# Altium schematic symbol library Diodes.SchLib: 448 symbols (part 8 of 10)
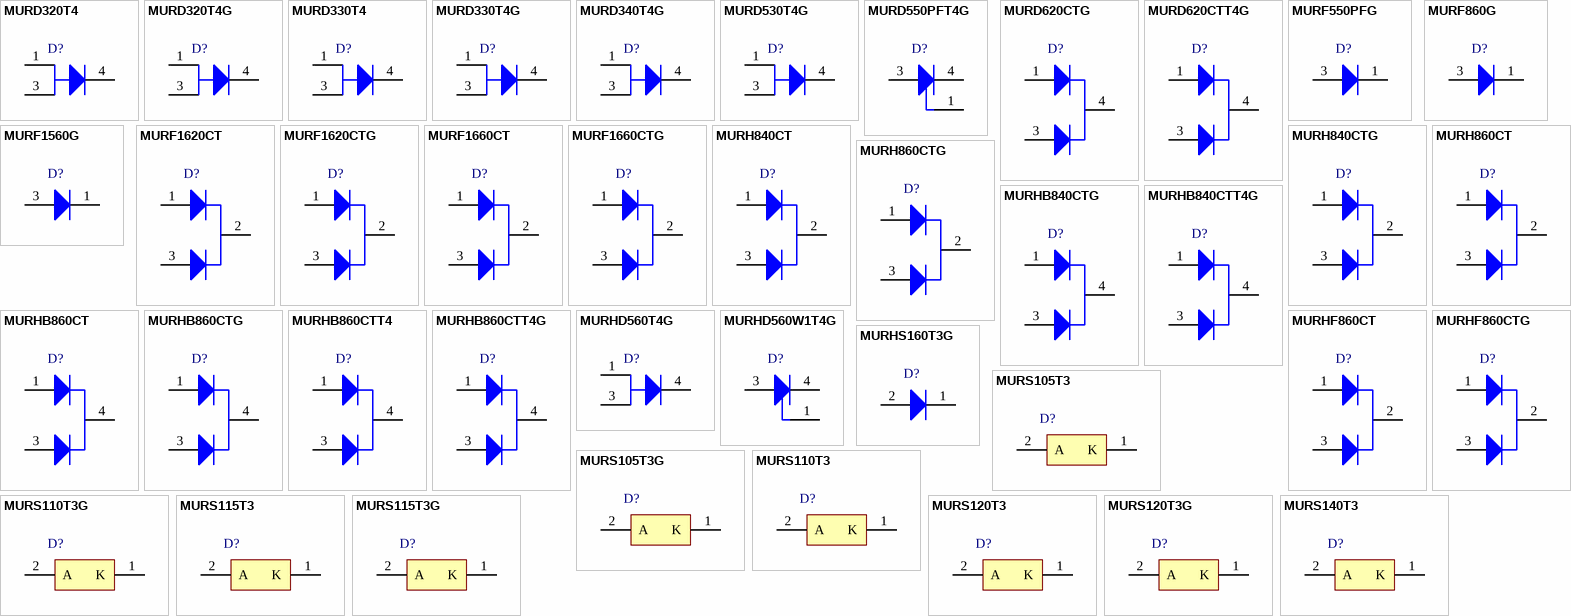
[diagram p18: symbols MURD320T4 to MURS140T3]

## MURH840CT
designator D?
Power Rectifier, 3-Pin TO-220, Tube; Manufacturer: On Semiconductor; PartNumber: MURH840CT; IFSM Max (A): 100; IO(rec) Max (A): 8; Type: Ultrafast; VRRM Max (V): 400; DatasheetVersion: Rev. 6; PackageVersion: Rev. AF; PackageReference: TO-220-3-221A-09_AF; PackageDescription: 3-Pin Flange Mount, Vertical Straight Lead, Body 9.97 x 4.445 mm, Pitch 2.54 mm; Supplier 1: Digi-Key; Supplier Part Number 1: MURH840CTOS-ND; Packing: Tube; RoHS: FALSE; Mounting Technology: Through Hole; ComponentLink1Description: Manufacturer URL; ComponentLink1URL: http://www.onsemi.com/; ComponentLink2Description: Datasheet; ComponentLink2URL: http://www.onsemi.cn/pub_link/Collateral/MURH840CT-D.PDF; ComponentLink3Description: Package Specification; ComponentLink3URL: http://www.onsemi.cn/pub_link/Collateral/MCR8S-D.PDF
footprint ONSC-TO-220-3-221A-09_AF (FM, 3-Leads, Body 10.3x4.85mm, Pitch 2.54mm)
pins: 1 A1, 2 K, 3 A2

## MURH840CTG
designator D?
Power Rectifier, 3-Pin TO-220, Pb-Free, Tube; Manufacturer: On Semiconductor; PartNumber: MURH840CTG; IFSM Max (A): 100; IO(rec) Max (A): 8; Type: Ultrafast; VRRM Max (V): 400; DatasheetVersion: Rev. 6; PackageVersion: Rev. AF; PackageReference: TO-220-3-221A-09_AF; PackageDescription: 3-Pin Flange Mount, Vertical Straight Lead, Body 9.97 x 4.445 mm, Pitch 2.54 mm; Supplier 1: Digi-Key; Supplier Part Number 1: MURH840CTGOS-ND; Supplier 2: Farnell; Supplier Part Number 2: 2317406; Supplier 3: Newark; Supplier Part Number 3: 71J6211; Supplier 4: Newark; Supplier Part Number 4: 90W4735; Supplier 5: Mouser; Supplier Part Number 5: 863-MURH840CTG; Packing: Tube; RoHS: TRUE; Mounting Technology: Through Hole; ComponentLink1Description: Manufacturer URL; ComponentLink1URL: http://www.onsemi.com/; ComponentLink2Description: Datasheet; ComponentLink2URL: http://www.onsemi.cn/pub_link/Collateral/MURH840CT-D.PDF; ComponentLink3Description: Package Specification; ComponentLink3URL: http://www.onsemi.cn/pub_link/Collateral/MCR8S-D.PDF
footprint ONSC-TO-220-3-221A-09_AF (FM, 3-Leads, Body 10.3x4.85mm, Pitch 2.54mm)
pins: 1 A1, 2 K, 3 A2

## MURH860CT
designator D?
Power Rectifier, 3-Pin TO-220, Tube; Manufacturer: On Semiconductor; PartNumber: MURH860CT; IFSM Max (A): 100; IO(rec) Max (A): 8; Type: Ultrafast; VRRM Max (V): 600; DatasheetVersion: Rev. 5; PackageVersion: Rev. AF; PackageReference: TO-220-3-221A-09_AF; PackageDescription: 3-Pin Flange Mount, Vertical Straight Lead, Body 9.97 x 4.445 mm, Pitch 2.54 mm; Supplier 1: Digi-Key; Supplier Part Number 1: MURH860CTOS-ND; Packing: Tube; RoHS: FALSE; Mounting Technology: Through Hole; ComponentLink1Description: Manufacturer URL; ComponentLink1URL: http://www.onsemi.com/; ComponentLink2Description: Datasheet; ComponentLink2URL: http://www.onsemi.cn/pub_link/Collateral/MURH860CT-D.PDF; ComponentLink3Description: Package Specification; ComponentLink3URL: http://www.onsemi.cn/pub_link/Collateral/MCR8S-D.PDF
footprint ONSC-TO-220-3-221A-09_AF (FM, 3-Leads, Body 10.3x4.85mm, Pitch 2.54mm)
pins: 1 A1, 2 K, 3 A2

## MURH860CTG
designator D?
Power Rectifier, 3-Pin TO-220, Pb-Free, Tube; Manufacturer: On Semiconductor; PartNumber: MURH860CTG; IFSM Max (A): 100; IO(rec) Max (A): 8; Type: Ultrafast; VRRM Max (V): 600; DatasheetVersion: Rev. 5; PackageVersion: Rev. AF; PackageReference: TO-220-3-221A-09_AF; PackageDescription: 3-Pin Flange Mount, Vertical Straight Lead, Body 9.97 x 4.445 mm, Pitch 2.54 mm; Supplier 1: Digi-Key; Supplier Part Number 1: MURH860CTGOS-ND; Supplier 2: Farnell; Supplier Part Number 2: 1651060; Supplier 3: Newark; Supplier Part Number 3: 45J1736; Supplier 4: Mouser; Supplier Part Number 4: 863-MURH860CTG; Packing: Tube; RoHS: TRUE; Mounting Technology: Through Hole; ComponentLink1Description: Manufacturer URL; ComponentLink1URL: http://www.onsemi.com/; ComponentLink2Description: Datasheet; ComponentLink2URL: http://www.onsemi.cn/pub_link/Collateral/MURH860CT-D.PDF; ComponentLink3Description: Package Specification; ComponentLink3URL: http://www.onsemi.cn/pub_link/Collateral/MCR8S-D.PDF
footprint ONSC-TO-220-3-221A-09_AF (FM, 3-Leads, Body 10.3x4.85mm, Pitch 2.54mm)
pins: 1 A1, 2 K, 3 A2

## MURHB840CTG
designator D?
Power Rectifier, 3-Pin D2PAK, Pb-Free, Tube; Manufacturer: On Semiconductor; PartNumber: MURHB840CTG; IFSM Max (A): 100; IO(rec) Max (A): 8; Type: Ultrafast; VRRM Max (V): 400; DatasheetVersion: Rev. 7; PackageVersion: Rev. K, 09/2008; PackageReference: D2PAK-3-418B-04; PackageDescription: 3-Pin Flange Mount, Body 9.145 x 9.97 mm, Pitch 2.54 mm; Supplier 1: Digi-Key; Supplier Part Number 1: MURHB840CTGOS-ND; Supplier 2: Newark; Supplier Part Number 2: 71J6210; Supplier 3: Mouser; Supplier Part Number 3: 863-MURHB840CTG; Packing: Tube; RoHS: TRUE; Mounting Technology: Surface Mount; ComponentLink1Description: Manufacturer URL; ComponentLink1URL: http://www.onsemi.com/; ComponentLink2Description: Datasheet; ComponentLink2URL: http://www.onsemi.cn/pub_link/Collateral/MURHB840CT-D.PDF; ComponentLink3Description: Package Specification; ComponentLink3URL: http://www.onsemi.com/pub_link/Collateral/418B-04.PDF
footprint ONSC-D2PAK-3-418B-04_V (DPAK, 3-Leads, Body 9.97x9.145mm, Pitch 2.54mm)
pins: 1 A1, 3 A2, 4 K

## MURHB840CTT4G
designator D?
Power Rectifier, 3-Pin D2PAK, Pb-Free, Tape and Reel; Manufacturer: On Semiconductor; PartNumber: MURHB840CTT4G; IFSM Max (A): 100; IO(rec) Max (A): 8; Type: Ultrafast; VRRM Max (V): 400; DatasheetVersion: Rev. 7; PackageVersion: Rev. K, 09/2008; PackageReference: D2PAK-3-418B-04; PackageDescription: 3-Pin Flange Mount, Body 9.145 x 9.97 mm, Pitch 2.54 mm; Supplier 1: Digi-Key; Supplier Part Number 1: MURHB840CTT4GOSTR-ND; Supplier 2: Digi-Key; Supplier Part Number 2: MURHB840CTT4GOSCT-ND; Supplier 3: Digi-Key; Supplier Part Number 3: MURHB840CTT4GOSDKR-ND; Supplier 4: Farnell; Supplier Part Number 4: 1887102; Supplier 5: Newark; Supplier Part Number 5: 09R9584; Supplier 6: Mouser; Supplier Part Number 6: 863-MURHB840CTT4G; Packing: Tape and Reel; RoHS: TRUE; Mounting Technology: Surface Mount; ComponentLink1Description: Manufacturer URL; ComponentLink1URL: http://www.onsemi.com/; ComponentLink2Description: Datasheet; ComponentLink2URL: http://www.onsemi.cn/pub_link/Collateral/MURHB840CT-D.PDF; ComponentLink3Description: Package Specification; ComponentLink3URL: http://www.onsemi.com/pub_link/Collateral/418B-04.PDF
footprint ONSC-D2PAK-3-418B-04_V (DPAK, 3-Leads, Body 9.97x9.145mm, Pitch 2.54mm)
pins: 1 A1, 3 A2, 4 K

## MURHB860CT
designator D?
Power Rectifier, 3-Pin D2PAK, Tube; Manufacturer: On Semiconductor; PartNumber: MURHB860CT; IFSM Max (A): 100; Type: Ultrafast; VRRM Max (V): 600; DatasheetVersion: Rev. 3; PackageVersion: Rev. K, 09/2008; PackageReference: D2PAK-3-418B-04; PackageDescription: 3-Pin Flange Mount, Body 9.145 x 9.97 mm, Pitch 2.54 mm; Supplier 1: Digi-Key; Supplier Part Number 1: MURHB860CT-ND; Supplier 2: Mouser; Supplier Part Number 2: 863-MURHB860CT; Packing: Tube; RoHS: FALSE; Mounting Technology: Surface Mount; ComponentLink1Description: Manufacturer URL; ComponentLink1URL: http://www.onsemi.com/; ComponentLink2Description: Datasheet; ComponentLink2URL: http://www.onsemi.cn/pub_link/Collateral/MURHB860CT-D.PDF; ComponentLink3Description: Package Specification; ComponentLink3URL: http://www.onsemi.com/pub_link/Collateral/418B-04.PDF
footprint ONSC-D2PAK-3-418B-04_V (DPAK, 3-Leads, Body 9.97x9.145mm, Pitch 2.54mm)
pins: 1 A1, 3 A2, 4 K

## MURHB860CTG
designator D?
Power Rectifier, 3-Pin D2PAK, Pb-Free, Tube; Manufacturer: On Semiconductor; PartNumber: MURHB860CTG; IFSM Max (A): 100; Type: Ultrafast; VRRM Max (V): 600; DatasheetVersion: Rev. 3; PackageVersion: Rev. K, 09/2008; PackageReference: D2PAK-3-418B-04; PackageDescription: 3-Pin Flange Mount, Body 9.145 x 9.97 mm, Pitch 2.54 mm; Supplier 1: Digi-Key; Supplier Part Number 1: MURHB860CTG-ND; Supplier 2: Mouser; Supplier Part Number 2: 863-MURHB860CTG; Packing: Tube; RoHS: TRUE; Mounting Technology: Surface Mount; ComponentLink1Description: Manufacturer URL; ComponentLink1URL: http://www.onsemi.com/; ComponentLink2Description: Datasheet; ComponentLink2URL: http://www.onsemi.cn/pub_link/Collateral/MURHB860CT-D.PDF; ComponentLink3Description: Package Specification; ComponentLink3URL: http://www.onsemi.com/pub_link/Collateral/418B-04.PDF
footprint ONSC-D2PAK-3-418B-04_V (DPAK, 3-Leads, Body 9.97x9.145mm, Pitch 2.54mm)
pins: 1 A1, 3 A2, 4 K

## MURHB860CTT4
designator D?
Power Rectifier, 3-Pin D2PAK, Tape and Reel; Manufacturer: On Semiconductor; PartNumber: MURHB860CTT4; IFSM Max (A): 100; Type: Ultrafast; VRRM Max (V): 600; DatasheetVersion: Rev. 3; PackageVersion: Rev. K, 09/2008; PackageReference: D2PAK-3-418B-04; PackageDescription: 3-Pin Flange Mount, Body 9.145 x 9.97 mm, Pitch 2.54 mm; Supplier 1: Digi-Key; Supplier Part Number 1: MURHB860CTT4OSTR-ND; Supplier 2: Digi-Key; Supplier Part Number 2: MURHB860CTT4OSCT-ND; Packing: Tape and Reel; RoHS: FALSE; Mounting Technology: Surface Mount; ComponentLink1Description: Manufacturer URL; ComponentLink1URL: http://www.onsemi.com/; ComponentLink2Description: Datasheet; ComponentLink2URL: http://www.onsemi.cn/pub_link/Collateral/MURHB860CT-D.PDF; ComponentLink3Description: Package Specification; ComponentLink3URL: http://www.onsemi.com/pub_link/Collateral/418B-04.PDF
footprint ONSC-D2PAK-3-418B-04_V (DPAK, 3-Leads, Body 9.97x9.145mm, Pitch 2.54mm)
pins: 1 A1, 3 A2, 4 K

## MURHB860CTT4G
designator D?
Power Rectifier, 3-Pin D2PAK, Pb-Free, Tape and Reel; Manufacturer: On Semiconductor; PartNumber: MURHB860CTT4G; IFSM Max (A): 100; Type: Ultrafast; VRRM Max (V): 600; DatasheetVersion: Rev. 3; PackageVersion: Rev. K, 09/2008; PackageReference: D2PAK-3-418B-04; PackageDescription: 3-Pin Flange Mount, Body 9.145 x 9.97 mm, Pitch 2.54 mm; Supplier 1: Digi-Key; Supplier Part Number 1: MURHB860CTT4GOSTR-ND; Supplier 2: Digi-Key; Supplier Part Number 2: MURHB860CTT4GOSCT-ND; Supplier 3: Digi-Key; Supplier Part Number 3: MURHB860CTT4GOSDKR-ND; Supplier 4: Newark; Supplier Part Number 4: 42K1587; Supplier 5: Mouser; Supplier Part Number 5: 863-MURHB860CTT4G; Packing: Tape and Reel; RoHS: TRUE; Mounting Technology: Surface Mount; ComponentLink1Description: Manufacturer URL; ComponentLink1URL: http://www.onsemi.com/; ComponentLink2Description: Datasheet; ComponentLink2URL: http://www.onsemi.cn/pub_link/Collateral/MURHB860CT-D.PDF; ComponentLink3Description: Package Specification; ComponentLink3URL: http://www.onsemi.com/pub_link/Collateral/418B-04.PDF
footprint ONSC-D2PAK-3-418B-04_V (DPAK, 3-Leads, Body 9.97x9.145mm, Pitch 2.54mm)
pins: 1 A1, 3 A2, 4 K

## MURHD560T4G
designator D?
Power Rectifier, 3-Pin DPAK, Pb-Free, Tape and Reel; Manufacturer: On Semiconductor; PartNumber: MURHD560T4G; IFSM Max (A): 50; Type: Ultrafast; VRRM Max (V): 600; DatasheetVersion: Rev. 8; PackageVersion: Rev. E, 02/2014; PackageReference: DPAK-3-369C-01; PackageDescription: 3-Pin Flange Mount, Body 6.54 x 6.095 mm, Pitch 2.29 mm; Supplier 1: Digi-Key; Supplier Part Number 1: MURHD560T4G-ND; Supplier 2: Newark; Supplier Part Number 2: 50M2102; Supplier 3: Mouser; Supplier Part Number 3: 863-MURHD560T4G; Packing: Tape and Reel; RoHS: TRUE; Mounting Technology: Surface Mount; ComponentLink1Description: Manufacturer URL; ComponentLink1URL: http://www.onsemi.com/; ComponentLink2Description: Datasheet; ComponentLink2URL: http://www.onsemi.cn/pub_link/Collateral/MURHD560-D.PDF; ComponentLink3Description: Package Specification; ComponentLink3URL: http://www.onsemi.cn/pub_link/Collateral/369C.PDF
footprint ONSC-DPAK-3-369C-01_V (DPAK, 3-Leads, Body 6.54x6.095mm, Pitch 2.29mm)
pins: 1 A, 3 A, 4 K

## MURHD560W1T4G
designator D?
Power Rectifier, 3-Pin DPAK, Pb-Free, Tape and Reel; Manufacturer: On Semiconductor; PartNumber: MURHD560W1T4G; IFSM Max (A): 50; Type: Ultrafast; VRRM Max (V): 600; DatasheetVersion: Rev. 8; PackageVersion: Rev. E, 02/2014; PackageReference: DPAK-3-369C-01; PackageDescription: 3-Pin Flange Mount, Body 6.54 x 6.095 mm, Pitch 2.29 mm; Supplier 1: Digi-Key; Supplier Part Number 1: MURHD560W1T4G-ND; Supplier 2: Newark; Supplier Part Number 2: 13P5442; Supplier 3: Mouser; Supplier Part Number 3: 863-MURHD560W1T4G; Packing: Tape and Reel; RoHS: TRUE; Mounting Technology: Surface Mount; ComponentLink1Description: Manufacturer URL; ComponentLink1URL: http://www.onsemi.com/; ComponentLink2Description: Datasheet; ComponentLink2URL: http://www.onsemi.cn/pub_link/Collateral/MURHD560-D.PDF; ComponentLink3Description: Package Specification; ComponentLink3URL: http://www.onsemi.cn/pub_link/Collateral/369C.PDF
footprint ONSC-DPAK-3-369C-01_V (DPAK, 3-Leads, Body 6.54x6.095mm, Pitch 2.29mm)
pins: 1 NC, 3 A, 4 K

## MURHF860CT
designator D?
SWITCHMODE(TM) Power Rectifier, 3-Pin TO-220, Tube; Manufacturer: On Semiconductor; PartNumber: MURHF860CT; IFSM Max (A): 100; Type: Ultrafast; VRRM Max (V): 600; DatasheetVersion: Rev. 5; PackageVersion: Rev. K, 02/2009; PackageReference: TO-220FP-3-221D-03; PackageDescription: 3-Pin Flange Mount, Vertical Straight Lead, Body 10.295 x 4.7 mm, Pitch 2.54 mm; Supplier 1: Digi-Key; Supplier Part Number 1: MURHF860CT-ND; Packing: Tube; RoHS: FALSE; Mounting Technology: Through Hole; ComponentLink1Description: Manufacturer URL; ComponentLink1URL: http://www.onsemi.com/; ComponentLink2Description: Datasheet; ComponentLink2URL: http://www.onsemi.cn/pub_link/Collateral/MURHF860CT-D.PDF; ComponentLink3Description: Package Specification; ComponentLink3URL: http://www.onsemi.cn/pub_link/Collateral/221D-03.PDF
footprint ONSC-TO-220FP-3-221D-03 (FM, 3-Leads, Body 10.63x4.9mm, Pitch 2.54mm)
pins: 1 A1, 2 K, 3 A2

## MURHF860CTG
designator D?
SWITCHMODE(TM) Power Rectifier, 3-Pin TO-220FP, Pb-Free, Tube; Manufacturer: On Semiconductor; PartNumber: MURHF860CTG; IFSM Max (A): 100; Type: Ultrafast; VRRM Max (V): 600; DatasheetVersion: Rev. 5; PackageVersion: Rev. K, 02/2009; PackageReference: TO-220FP-3-221D-03; PackageDescription: 3-Pin Flange Mount, Vertical Straight Lead, Body 10.295 x 4.7 mm, Pitch 2.54 mm; Supplier 1: Digi-Key; Supplier Part Number 1: MURHF860CTGOS-ND; Supplier 2: Newark; Supplier Part Number 2: 42K1588; Supplier 3: Mouser; Supplier Part Number 3: 863-MURHF860CTG; Packing: Tube; RoHS: TRUE; Mounting Technology: Through Hole; ComponentLink1Description: Manufacturer URL; ComponentLink1URL: http://www.onsemi.com/; ComponentLink2Description: Datasheet; ComponentLink2URL: http://www.onsemi.cn/pub_link/Collateral/MURHF860CT-D.PDF; ComponentLink3Description: Package Specification; ComponentLink3URL: http://www.onsemi.cn/pub_link/Collateral/221D-03.PDF
footprint ONSC-TO-220FP-3-221D-03 (FM, 3-Leads, Body 10.63x4.9mm, Pitch 2.54mm)
pins: 1 A1, 2 K, 3 A2

## MURHS160T3G
designator D?
Power Rectifier, 2-Pin SMB, Pb-Free, Tape and Reel; Manufacturer: On Semiconductor; PartNumber: MURHS160T3G; IFSM Max (A): 15; Type: Ultrafast; VRRM Max (V): 600; DatasheetVersion: Rev. 3; PackageVersion: Rev. H, 05/2011; PackageReference: SMB-2-403A-03_H; PackageDescription: 2-Pin Small Molded Package, J-Bend Lead, Body 4.33 x 3.625 mm; Supplier 1: Digi-Key; Supplier Part Number 1: MURHS160T3G-ND; Supplier 2: Newark; Supplier Part Number 2: 34M7667; Supplier 3: Mouser; Supplier Part Number 3: 863-MURHS160T3G; Packing: Tape and Reel; RoHS: TRUE; Mounting Technology: Surface Mount; ComponentLink1Description: Manufacturer URL; ComponentLink1URL: http://www.onsemi.com/; ComponentLink2Description: Datasheet; ComponentLink2URL: http://www.onsemi.cn/pub_link/Collateral/MURHS160-D.PDF; ComponentLink3Description: Package Specification; ComponentLink3URL: http://www.onsemi.com/pub_link/Collateral/1SMB5913BT3-D.PDF
footprint ONSC-SMB-2-403A-03_H_V (Molded, 2-Leads, Body 4.6x3.95mm)
pins: 1 K, 2 A

## MURS105T3
designator D?
Surface Mount Ultrafast Power Rectifier, 2-Pin SMB, Tape and Reel; Manufacturer: On Semiconductor; PartNumber: MURS105T3; IFSM Max (A): 40; VRRM Max (V): 50; DatasheetVersion: Rev. 12; PackageVersion: Rev. J, 07/2012; PackageReference: SMB-2-403A-03; PackageDescription: 2-Pin Small Molded Package, J-Bend Lead, Body 4.33 x 3.625 mm; Supplier 1: Digi-Key; Supplier Part Number 1: MURS105T3OSTR-ND; Supplier 2: Digi-Key; Supplier Part Number 2: MURS105T3OSCT-ND; Supplier 3: Digi-Key; Supplier Part Number 3: MURS105T3OSDKR-ND; Packing: Tape and Reel; RoHS: FALSE; Type: Ultrafast; Mounting Technology: Surface Mount; ComponentLink1Description: Manufacturer URL; ComponentLink1URL: http://www.onsemi.com/; ComponentLink2Description: Datasheet; ComponentLink2URL: http://www.onsemi.cn/pub_link/Collateral/MURS120T3-D.PDF; ComponentLink3Description: Package Specification; ComponentLink3URL: http://www.onsemi.com/pub_link/Collateral/403A-03.PDF
footprint ONSC-SMB-2-403A-03_V (Molded, 2-Leads, Body 4.6x3.95mm)
pins: 1 K, 2 A

## MURS105T3G
designator D?
Surface Mount Ultrafast Power Rectifier, 2-Pin SMB, Pb-Free, Tape and Reel; Manufacturer: On Semiconductor; PartNumber: MURS105T3G; IFSM Max (A): 40; VRRM Max (V): 50; DatasheetVersion: Rev. 12; PackageVersion: Rev. J, 07/2012; PackageReference: SMB-2-403A-03; PackageDescription: 2-Pin Small Molded Package, J-Bend Lead, Body 4.33 x 3.625 mm; Supplier 1: Digi-Key; Supplier Part Number 1: MURS105T3GOSTR-ND; Supplier 2: Digi-Key; Supplier Part Number 2: MURS105T3GOSCT-ND; Supplier 3: Digi-Key; Supplier Part Number 3: MURS105T3GOSDKR-ND; Supplier 4: Farnell; Supplier Part Number 4: 1231726; Supplier 5: Newark; Supplier Part Number 5: 42K1591; Supplier 6: Mouser; Supplier Part Number 6: 863-MURS105T3G; Packing: Tape and Reel; RoHS: TRUE; Type: Ultrafast; Mounting Technology: Surface Mount; ComponentLink1Description: Manufacturer URL; ComponentLink1URL: http://www.onsemi.com/; ComponentLink2Description: Datasheet; ComponentLink2URL: http://www.onsemi.cn/pub_link/Collateral/MURS120T3-D.PDF; ComponentLink3Description: Package Specification; ComponentLink3URL: http://www.onsemi.com/pub_link/Collateral/403A-03.PDF
footprint ONSC-SMB-2-403A-03_V (Molded, 2-Leads, Body 4.6x3.95mm)
pins: 1 K, 2 A

## MURS110T3
designator D?
Surface Mount Ultrafast Power Rectifier, 2-Pin SMB, Tape and Reel; Manufacturer: On Semiconductor; PartNumber: MURS110T3; IFSM Max (A): 40; VRRM Max (V): 100; DatasheetVersion: Rev. 12; PackageVersion: Rev. J, 07/2012; PackageReference: SMB-2-403A-03; PackageDescription: 2-Pin Small Molded Package, J-Bend Lead, Body 4.33 x 3.625 mm; Supplier 1: Digi-Key; Supplier Part Number 1: MURS110T3OSCT-ND; Supplier 2: Digi-Key; Supplier Part Number 2: MURS110T3OSDKR-ND; Packing: Tape and Reel; RoHS: FALSE; Type: Ultrafast; Mounting Technology: Surface Mount; ComponentLink1Description: Manufacturer URL; ComponentLink1URL: http://www.onsemi.com/; ComponentLink2Description: Datasheet; ComponentLink2URL: http://www.onsemi.cn/pub_link/Collateral/MURS120T3-D.PDF; ComponentLink3Description: Package Specification; ComponentLink3URL: http://www.onsemi.com/pub_link/Collateral/403A-03.PDF
footprint ONSC-SMB-2-403A-03_V (Molded, 2-Leads, Body 4.6x3.95mm)
pins: 1 K, 2 A

## MURS110T3G
designator D?
Surface Mount Ultrafast Power Rectifier, 2-Pin SMB, Pb-Free, Tape and Reel; Manufacturer: On Semiconductor; PartNumber: MURS110T3G; IFSM Max (A): 40; VRRM Max (V): 100; DatasheetVersion: Rev. 12; PackageVersion: Rev. J, 07/2012; PackageReference: SMB-2-403A-03; PackageDescription: 2-Pin Small Molded Package, J-Bend Lead, Body 4.33 x 3.625 mm; Supplier 1: Digi-Key; Supplier Part Number 1: MURS110T3GOSTR-ND; Supplier 2: Digi-Key; Supplier Part Number 2: MURS110T3GOSCT-ND; Supplier 3: Digi-Key; Supplier Part Number 3: MURS110T3GOSDKR-ND; Supplier 4: Farnell; Supplier Part Number 4: 1872949; Supplier 5: Newark; Supplier Part Number 5: 26K4701; Supplier 6: Newark; Supplier Part Number 6: 03P0566; Supplier 7: Mouser; Supplier Part Number 7: 863-MURS110T3G; Packing: Tape and Reel; RoHS: TRUE; Type: Ultrafast; Mounting Technology: Surface Mount; ComponentLink1Description: Manufacturer URL; ComponentLink1URL: http://www.onsemi.com/; ComponentLink2Description: Datasheet; ComponentLink2URL: http://www.onsemi.cn/pub_link/Collateral/MURS120T3-D.PDF; ComponentLink3Description: Package Specification; ComponentLink3URL: http://www.onsemi.com/pub_link/Collateral/403A-03.PDF
footprint ONSC-SMB-2-403A-03_V (Molded, 2-Leads, Body 4.6x3.95mm)
pins: 1 K, 2 A

## MURS115T3
designator D?
Surface Mount Ultrafast Power Rectifier, 2-Pin SMB, Tape and Reel; Manufacturer: On Semiconductor; PartNumber: MURS115T3; IFSM Max (A): 40; VRRM Max (V): 150; DatasheetVersion: Rev. 12; PackageVersion: Rev. J, 07/2012; PackageReference: SMB-2-403A-03; PackageDescription: 2-Pin Small Molded Package, J-Bend Lead, Body 4.33 x 3.625 mm; Supplier 1: Digi-Key; Supplier Part Number 1: MURS115T3OSCT-ND; Supplier 2: Digi-Key; Supplier Part Number 2: MURS115T3OSDKR-ND; Packing: Tape and Reel; RoHS: FALSE; Type: Ultrafast; Mounting Technology: Surface Mount; ComponentLink1Description: Manufacturer URL; ComponentLink1URL: http://www.onsemi.com/; ComponentLink2Description: Datasheet; ComponentLink2URL: http://www.onsemi.cn/pub_link/Collateral/MURS120T3-D.PDF; ComponentLink3Description: Package Specification; ComponentLink3URL: http://www.onsemi.com/pub_link/Collateral/403A-03.PDF
footprint ONSC-SMB-2-403A-03_V (Molded, 2-Leads, Body 4.6x3.95mm)
pins: 1 K, 2 A

## MURS115T3G
designator D?
Surface Mount Ultrafast Power Rectifier, 2-Pin SMB, Pb-Free, Tape and Reel; Manufacturer: On Semiconductor; PartNumber: MURS115T3G; IFSM Max (A): 40; VRRM Max (V): 150; DatasheetVersion: Rev. 12; PackageVersion: Rev. J, 07/2012; PackageReference: SMB-2-403A-03; PackageDescription: 2-Pin Small Molded Package, J-Bend Lead, Body 4.33 x 3.625 mm; Supplier 1: Digi-Key; Supplier Part Number 1: MURS115T3GOSTR-ND; Supplier 2: Digi-Key; Supplier Part Number 2: MURS115T3GOSCT-ND; Supplier 3: Digi-Key; Supplier Part Number 3: MURS115T3GOSDKR-ND; Supplier 4: Farnell; Supplier Part Number 4: 1220689; Supplier 5: Newark; Supplier Part Number 5: 26K4702; Supplier 6: Newark; Supplier Part Number 6: 05R8891; Supplier 7: Mouser; Supplier Part Number 7: 863-MURS115T3G; Packing: Tape and Reel; RoHS: TRUE; Type: Ultrafast; Mounting Technology: Surface Mount; ComponentLink1Description: Manufacturer URL; ComponentLink1URL: http://www.onsemi.com/; ComponentLink2Description: Datasheet; ComponentLink2URL: http://www.onsemi.cn/pub_link/Collateral/MURS120T3-D.PDF; ComponentLink3Description: Package Specification; ComponentLink3URL: http://www.onsemi.com/pub_link/Collateral/403A-03.PDF
footprint ONSC-SMB-2-403A-03_V (Molded, 2-Leads, Body 4.6x3.95mm)
pins: 1 K, 2 A

## MURS120T3
designator D?
Surface Mount Ultrafast Power Rectifier, 2-Pin SMB, Tape and Reel; Manufacturer: On Semiconductor; PartNumber: MURS120T3; IFSM Max (A): 40; VRRM Max (V): 200; DatasheetVersion: Rev. 12; PackageVersion: Rev. J, 07/2012; PackageReference: SMB-2-403A-03; PackageDescription: 2-Pin Small Molded Package, J-Bend Lead, Body 4.33 x 3.625 mm; Supplier 1: Digi-Key; Supplier Part Number 1: MURS120T3OSCT-ND; Supplier 2: Digi-Key; Supplier Part Number 2: MURS120T3OSDKR-ND; Packing: Tape and Reel; RoHS: FALSE; Type: Ultrafast; Mounting Technology: Surface Mount; ComponentLink1Description: Manufacturer URL; ComponentLink1URL: http://www.onsemi.com/; ComponentLink2Description: Datasheet; ComponentLink2URL: http://www.onsemi.cn/pub_link/Collateral/MURS120T3-D.PDF; ComponentLink3Description: Package Specification; ComponentLink3URL: http://www.onsemi.com/pub_link/Collateral/403A-03.PDF
footprint ONSC-SMB-2-403A-03_V (Molded, 2-Leads, Body 4.6x3.95mm)
pins: 1 K, 2 A

## MURS120T3G
designator D?
Surface Mount Ultrafast Power Rectifier, 2-Pin SMB, Pb-Free, Tape and Reel; Manufacturer: On Semiconductor; PartNumber: MURS120T3G; IFSM Max (A): 40; VRRM Max (V): 200; DatasheetVersion: Rev. 12; PackageVersion: Rev. J, 07/2012; PackageReference: SMB-2-403A-03; PackageDescription: 2-Pin Small Molded Package, J-Bend Lead, Body 4.33 x 3.625 mm; Supplier 1: Digi-Key; Supplier Part Number 1: MURS120T3GOSTR-ND; Supplier 2: Digi-Key; Supplier Part Number 2: MURS120T3GOSCT-ND; Supplier 3: Digi-Key; Supplier Part Number 3: MURS120T3GOSDKR-ND; Supplier 4: Farnell; Supplier Part Number 4: 2317657; Supplier 5: Farnell; Supplier Part Number 5: 9557458RL; Supplier 6: Farnell; Supplier Part Number 6: 9557458; Supplier 7: Newark; Supplier Part Number 7: 03P0555; Supplier 8: Newark; Supplier Part Number 8: 83H7546; Supplier 9: Newark; Supplier Part Number 9: 18X9836; Supplier 10: Mouser; Supplier Part Number 10: 863-MURS120T3G; Packing: Tape and Reel; RoHS: TRUE; Type: Ultrafast; Mounting Technology: Surface Mount; ComponentLink1Description: Manufacturer URL; ComponentLink1URL: http://www.onsemi.com/; ComponentLink2Description: Datasheet; ComponentLink2URL: http://www.onsemi.cn/pub_link/Collateral/MURS120T3-D.PDF; ComponentLink3Description: Package Specification; ComponentLink3URL: http://www.onsemi.com/pub_link/Collateral/403A-03.PDF
footprint ONSC-SMB-2-403A-03_V (Molded, 2-Leads, Body 4.6x3.95mm)
pins: 1 K, 2 A

## MURS140T3
designator D?
Surface Mount Ultrafast Power Rectifier, 2-Pin SMB, Tape and Reel; Manufacturer: On Semiconductor; PartNumber: MURS140T3; IFSM Max (A): 35; VRRM Max (V): 400; DatasheetVersion: Rev. 12; PackageVersion: Rev. J, 07/2012; PackageReference: SMB-2-403A-03; PackageDescription: 2-Pin Small Molded Package, J-Bend Lead, Body 4.33 x 3.625 mm; Supplier 1: Digi-Key; Supplier Part Number 1: MURS140T3OSCT-ND; Supplier 2: Digi-Key; Supplier Part Number 2: MURS140T3OSDKR-ND; Packing: Tape and Reel; RoHS: FALSE; Type: Ultrafast; Mounting Technology: Surface Mount; ComponentLink1Description: Manufacturer URL; ComponentLink1URL: http://www.onsemi.com/; ComponentLink2Description: Datasheet; ComponentLink2URL: http://www.onsemi.cn/pub_link/Collateral/MURS120T3-D.PDF; ComponentLink3Description: Package Specification; ComponentLink3URL: http://www.onsemi.com/pub_link/Collateral/403A-03.PDF
footprint ONSC-SMB-2-403A-03_V (Molded, 2-Leads, Body 4.6x3.95mm)
pins: 1 K, 2 A

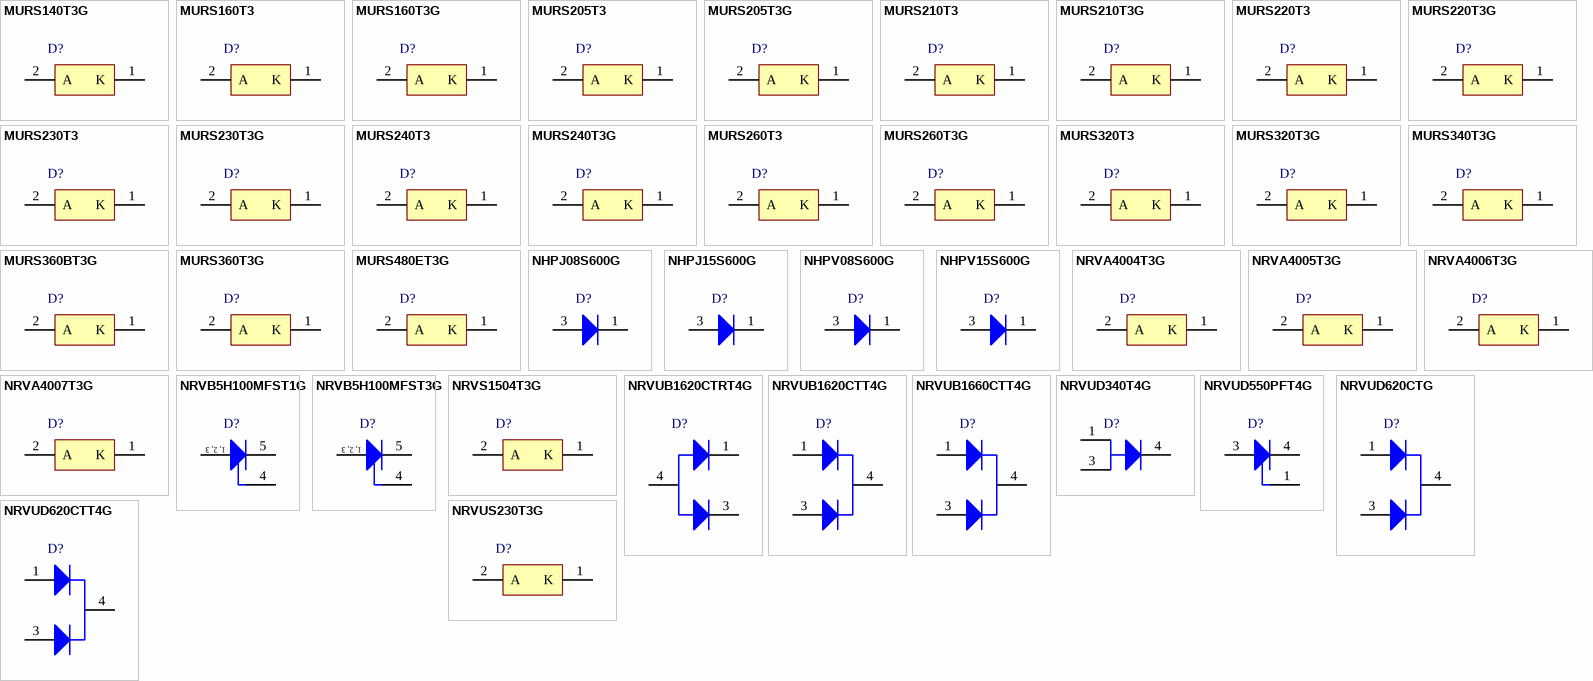
[diagram p9: symbols MURS140T3G to NRVUS230T3G]

## MURS140T3G
designator D?
Surface Mount Ultrafast Power Rectifier, 2-Pin SMB, Pb-Free, Tape and Reel; Manufacturer: On Semiconductor; PartNumber: MURS140T3G; IFSM Max (A): 35; VRRM Max (V): 400; DatasheetVersion: Rev. 12; PackageVersion: Rev. J, 07/2012; PackageReference: SMB-2-403A-03; PackageDescription: 2-Pin Small Molded Package, J-Bend Lead, Body 4.33 x 3.625 mm; Supplier 1: Digi-Key; Supplier Part Number 1: MURS140T3GOSTR-ND; Supplier 2: Digi-Key; Supplier Part Number 2: MURS140T3GOSCT-ND; Supplier 3: Digi-Key; Supplier Part Number 3: MURS140T3GOSDKR-ND; Supplier 4: Farnell; Supplier Part Number 4: 1459150RL; Supplier 5: Farnell; Supplier Part Number 5: 1459150; Supplier 6: Farnell; Supplier Part Number 6: 2370842; Supplier 7: Newark; Supplier Part Number 7: 45J1737; Supplier 8: Newark; Supplier Part Number 8: 67R1388; Supplier 9: Mouser; Supplier Part Number 9: 863-MURS140T3G; Packing: Tape and Reel; RoHS: TRUE; Type: Ultrafast; Mounting Technology: Surface Mount; ComponentLink1Description: Manufacturer URL; ComponentLink1URL: http://www.onsemi.com/; ComponentLink2Description: Datasheet; ComponentLink2URL: http://www.onsemi.cn/pub_link/Collateral/MURS120T3-D.PDF; ComponentLink3Description: Package Specification; ComponentLink3URL: http://www.onsemi.com/pub_link/Collateral/403A-03.PDF
footprint ONSC-SMB-2-403A-03_V (Molded, 2-Leads, Body 4.6x3.95mm)
pins: 1 K, 2 A

## MURS160T3
designator D?
Surface Mount Ultrafast Power Rectifier, 2-Pin SMB, Tape and Reel; Manufacturer: On Semiconductor; PartNumber: MURS160T3; IFSM Max (A): 35; VRRM Max (V): 600; DatasheetVersion: Rev. 12; PackageVersion: Rev. J, 07/2012; PackageReference: SMB-2-403A-03; PackageDescription: 2-Pin Small Molded Package, J-Bend Lead, Body 4.33 x 3.625 mm; Supplier 1: Digi-Key; Supplier Part Number 1: MURS160T3OSCT-ND; Supplier 2: Digi-Key; Supplier Part Number 2: MURS160T3OSDKR-ND; Packing: Tape and Reel; RoHS: FALSE; Type: Ultrafast; Mounting Technology: Surface Mount; ComponentLink1Description: Manufacturer URL; ComponentLink1URL: http://www.onsemi.com/; ComponentLink2Description: Datasheet; ComponentLink2URL: http://www.onsemi.cn/pub_link/Collateral/MURS120T3-D.PDF; ComponentLink3Description: Package Specification; ComponentLink3URL: http://www.onsemi.com/pub_link/Collateral/403A-03.PDF
footprint ONSC-SMB-2-403A-03_V (Molded, 2-Leads, Body 4.6x3.95mm)
pins: 1 K, 2 A

## MURS160T3G
designator D?
Surface Mount Ultrafast Power Rectifier, 2-Pin SMB, Pb-Free, Tape and Reel; Manufacturer: On Semiconductor; PartNumber: MURS160T3G; IFSM Max (A): 35; VRRM Max (V): 600; DatasheetVersion: Rev. 12; PackageVersion: Rev. J, 07/2012; PackageReference: SMB-2-403A-03; PackageDescription: 2-Pin Small Molded Package, J-Bend Lead, Body 4.33 x 3.625 mm; Supplier 1: Digi-Key; Supplier Part Number 1: MURS160T3GOSTR-ND; Supplier 2: Digi-Key; Supplier Part Number 2: MURS160T3GOSCT-ND; Supplier 3: Digi-Key; Supplier Part Number 3: MURS160T3GOSDKR-ND; Supplier 4: Farnell; Supplier Part Number 4: 9557520RL; Supplier 5: Farnell; Supplier Part Number 5: 9557520; Supplier 6: Newark; Supplier Part Number 6: 03P0691; Supplier 7: Newark; Supplier Part Number 7: 83H7547; Supplier 8: Newark; Supplier Part Number 8: 28X7931; Supplier 9: Mouser; Supplier Part Number 9: 863-MURS160T3G; Packing: Tape and Reel; RoHS: TRUE; Type: Ultrafast; Mounting Technology: Surface Mount; ComponentLink1Description: Manufacturer URL; ComponentLink1URL: http://www.onsemi.com/; ComponentLink2Description: Datasheet; ComponentLink2URL: http://www.onsemi.cn/pub_link/Collateral/MURS120T3-D.PDF; ComponentLink3Description: Package Specification; ComponentLink3URL: http://www.onsemi.com/pub_link/Collateral/403A-03.PDF
footprint ONSC-SMB-2-403A-03_V (Molded, 2-Leads, Body 4.6x3.95mm)
pins: 1 K, 2 A

## MURS205T3
designator D?
Surface Mount Ultrafast Power Rectifier, 2-Pin SMB, Tape and Reel; Manufacturer: On Semiconductor; PartNumber: MURS205T3; IFSM Max (A): 50; DatasheetVersion: Rev. 2; PackageVersion: Rev. H, 05/2011; PackageReference: SMB-2-403A-03_H; PackageDescription: 2-Pin Small Molded Package, J-Bend Lead, Body 4.33 x 3.625 mm; Supplier 1: Digi-Key; Supplier Part Number 1: MURS205T3-ND; Packing: Tape and Reel; RoHS: FALSE; Type: Ultrafast; Mounting Technology: Surface Mount; ComponentLink1Description: Manufacturer URL; ComponentLink1URL: http://www.onsemi.com/; ComponentLink2Description: Datasheet; ComponentLink2URL: http://www.onsemi.cn/pub_link/Collateral/MURS205T3-D.PDF; ComponentLink3Description: Package Specification; ComponentLink3URL: http://www.onsemi.com/pub_link/Collateral/1SMB5913BT3-D.PDF
footprint ONSC-SMB-2-403A-03_H_V (Molded, 2-Leads, Body 4.6x3.95mm)
pins: 1 K, 2 A

## MURS205T3G
designator D?
Surface Mount Ultrafast Power Rectifier, 2-Pin SMB, Pb-Free, Tape and Reel; Manufacturer: On Semiconductor; PartNumber: MURS205T3G; IFSM Max (A): 50; DatasheetVersion: Rev. 2; PackageVersion: Rev. H, 05/2011; PackageReference: SMB-2-403A-03_H; PackageDescription: 2-Pin Small Molded Package, J-Bend Lead, Body 4.33 x 3.625 mm; Supplier 1: Digi-Key; Supplier Part Number 1: MURS205T3G-ND; Supplier 2: Newark; Supplier Part Number 2: 26K4703; Supplier 3: Mouser; Supplier Part Number 3: 863-MURS205T3G; Packing: Tape and Reel; RoHS: TRUE; Type: Ultrafast; Mounting Technology: Surface Mount; ComponentLink1Description: Manufacturer URL; ComponentLink1URL: http://www.onsemi.com/; ComponentLink2Description: Datasheet; ComponentLink2URL: http://www.onsemi.cn/pub_link/Collateral/MURS205T3-D.PDF; ComponentLink3Description: Package Specification; ComponentLink3URL: http://www.onsemi.com/pub_link/Collateral/1SMB5913BT3-D.PDF
footprint ONSC-SMB-2-403A-03_H_V (Molded, 2-Leads, Body 4.6x3.95mm)
pins: 1 K, 2 A

## MURS210T3
designator D?
Surface Mount Ultrafast Power Rectifier, 2-Pin SMB, Tape and Reel; Manufacturer: On Semiconductor; PartNumber: MURS210T3; IFSM Max (A): 50; DatasheetVersion: Rev. 2; PackageVersion: Rev. H, 05/2011; PackageReference: SMB-2-403A-03_H; PackageDescription: 2-Pin Small Molded Package, J-Bend Lead, Body 4.33 x 3.625 mm; Supplier 1: Digi-Key; Supplier Part Number 1: MURS210T3-ND; Packing: Tape and Reel; RoHS: FALSE; Type: Ultrafast; Mounting Technology: Surface Mount; ComponentLink1Description: Manufacturer URL; ComponentLink1URL: http://www.onsemi.com/; ComponentLink2Description: Datasheet; ComponentLink2URL: http://www.onsemi.cn/pub_link/Collateral/MURS205T3-D.PDF; ComponentLink3Description: Package Specification; ComponentLink3URL: http://www.onsemi.com/pub_link/Collateral/1SMB5913BT3-D.PDF
footprint ONSC-SMB-2-403A-03_H_V (Molded, 2-Leads, Body 4.6x3.95mm)
pins: 1 K, 2 A

## MURS210T3G
designator D?
Surface Mount Ultrafast Power Rectifier, 2-Pin SMB, Pb-Free, Tape and Reel; Manufacturer: On Semiconductor; PartNumber: MURS210T3G; IFSM Max (A): 50; DatasheetVersion: Rev. 2; PackageVersion: Rev. H, 05/2011; PackageReference: SMB-2-403A-03_H; PackageDescription: 2-Pin Small Molded Package, J-Bend Lead, Body 4.33 x 3.625 mm; Supplier 1: Digi-Key; Supplier Part Number 1: MURS210T3GOSTR-ND; Supplier 2: Digi-Key; Supplier Part Number 2: MURS210T3GOSCT-ND; Supplier 3: Digi-Key; Supplier Part Number 3: MURS210T3GOSDKR-ND; Supplier 4: Farnell; Supplier Part Number 4: 1364083; Supplier 5: Newark; Supplier Part Number 5: 26K4704; Supplier 6: Mouser; Supplier Part Number 6: 863-MURS210T3G; Packing: Tape and Reel; RoHS: TRUE; Type: Ultrafast; Mounting Technology: Surface Mount; ComponentLink1Description: Manufacturer URL; ComponentLink1URL: http://www.onsemi.com/; ComponentLink2Description: Datasheet; ComponentLink2URL: http://www.onsemi.cn/pub_link/Collateral/MURS205T3-D.PDF; ComponentLink3Description: Package Specification; ComponentLink3URL: http://www.onsemi.com/pub_link/Collateral/1SMB5913BT3-D.PDF
footprint ONSC-SMB-2-403A-03_H_V (Molded, 2-Leads, Body 4.6x3.95mm)
pins: 1 K, 2 A

## MURS220T3
designator D?
Surface Mount Ultrafast Power Rectifier, 2-Pin SMB, Tape and Reel; Manufacturer: On Semiconductor; PartNumber: MURS220T3; IFSM Max (A): 40; VRRM Max (V): 200; DatasheetVersion: Rev. 3; PackageVersion: Rev. H, 05/2011; PackageReference: SMB-2-403A-03_H; PackageDescription: 2-Pin Small Molded Package, J-Bend Lead, Body 4.33 x 3.625 mm; Supplier 1: Digi-Key; Supplier Part Number 1: MURS220T3OSCT-ND; Supplier 2: Digi-Key; Supplier Part Number 2: MURS220T3OSDKR-ND; Packing: Tape and Reel; RoHS: FALSE; Type: Ultrafast; Mounting Technology: Surface Mount; ComponentLink1Description: Manufacturer URL; ComponentLink1URL: http://www.onsemi.com/; ComponentLink2Description: Datasheet; ComponentLink2URL: http://www.onsemi.cn/pub_link/Collateral/MURS220T3-D.PDF; ComponentLink3Description: Package Specification; ComponentLink3URL: http://www.onsemi.com/pub_link/Collateral/1SMB5913BT3-D.PDF
footprint ONSC-SMB-2-403A-03_H_V (Molded, 2-Leads, Body 4.6x3.95mm)
pins: 1 K, 2 A

## MURS220T3G
designator D?
Surface Mount Ultrafast Power Rectifier, 2-Pin SMB, Pb-Free, Tape and Reel; Manufacturer: On Semiconductor; PartNumber: MURS220T3G; IFSM Max (A): 40; VRRM Max (V): 200; DatasheetVersion: Rev. 3; PackageVersion: Rev. H, 05/2011; PackageReference: SMB-2-403A-03_H; PackageDescription: 2-Pin Small Molded Package, J-Bend Lead, Body 4.33 x 3.625 mm; Supplier 1: Digi-Key; Supplier Part Number 1: MURS220T3GOSTR-ND; Supplier 2: Digi-Key; Supplier Part Number 2: MURS220T3GOSCT-ND; Supplier 3: Digi-Key; Supplier Part Number 3: MURS220T3GOSDKR-ND; Supplier 4: Farnell; Supplier Part Number 4: 1459151RL; Supplier 5: Farnell; Supplier Part Number 5: 1459151; Supplier 6: Newark; Supplier Part Number 6: 45J1738; Supplier 7: Newark; Supplier Part Number 7: 10M6024; Supplier 8: Mouser; Supplier Part Number 8: 863-MURS220T3G; Packing: Tape and Reel; RoHS: TRUE; Type: Ultrafast; Mounting Technology: Surface Mount; ComponentLink1Description: Manufacturer URL; ComponentLink1URL: http://www.onsemi.com/; ComponentLink2Description: Datasheet; ComponentLink2URL: http://www.onsemi.cn/pub_link/Collateral/MURS220T3-D.PDF; ComponentLink3Description: Package Specification; ComponentLink3URL: http://www.onsemi.com/pub_link/Collateral/1SMB5913BT3-D.PDF
footprint ONSC-SMB-2-403A-03_H_V (Molded, 2-Leads, Body 4.6x3.95mm)
pins: 1 K, 2 A

## MURS230T3
designator D?
Surface Mount Ultrafast Power Rectifier, 2-Pin SMB, Tape and Reel; Manufacturer: On Semiconductor; PartNumber: MURS230T3; Note: 0; IFSM Max (A): 35; DatasheetVersion: Rev. 8; PackageVersion: Rev. H, 05/2011; PackageReference: SMB-2-403A-03_H; PackageDescription: 2-Pin Small Molded Package, J-Bend Lead, Body 4.33 x 3.625 mm; Packing: Tape and Reel; RoHS: FALSE; Type: Ultrafast; Mounting Technology: Surface Mount; ComponentLink1Description: Manufacturer URL; ComponentLink1URL: http://www.onsemi.com/; ComponentLink2Description: Datasheet; ComponentLink2URL: http://www.onsemi.cn/pub_link/Collateral/MURS230T3-D.PDF; ComponentLink3Description: Package Specification; ComponentLink3URL: http://www.onsemi.com/pub_link/Collateral/1SMB5913BT3-D.PDF
footprint ONSC-SMB-2-403A-03_H_V (Molded, 2-Leads, Body 4.6x3.95mm)
pins: 1 K, 2 A

## MURS230T3G
designator D?
Surface Mount Ultrafast Power Rectifier, 2-Pin SMB, Pb-Free, Tape and Reel; Manufacturer: On Semiconductor; PartNumber: MURS230T3G; IFSM Max (A): 35; DatasheetVersion: Rev. 8; PackageVersion: Rev. H, 05/2011; PackageReference: SMB-2-403A-03_H; PackageDescription: 2-Pin Small Molded Package, J-Bend Lead, Body 4.33 x 3.625 mm; Supplier 1: Digi-Key; Supplier Part Number 1: MURS230T3GOSTR-ND; Supplier 2: Digi-Key; Supplier Part Number 2: MURS230T3GOSCT-ND; Supplier 3: Digi-Key; Supplier Part Number 3: MURS230T3GOSDKR-ND; Supplier 4: Newark; Supplier Part Number 4: 42K1592; Supplier 5: Mouser; Supplier Part Number 5: 863-MURS230T3G; Packing: Tape and Reel; RoHS: TRUE; Type: Ultrafast; Mounting Technology: Surface Mount; ComponentLink1Description: Manufacturer URL; ComponentLink1URL: http://www.onsemi.com/; ComponentLink2Description: Datasheet; ComponentLink2URL: http://www.onsemi.cn/pub_link/Collateral/MURS230T3-D.PDF; ComponentLink3Description: Package Specification; ComponentLink3URL: http://www.onsemi.com/pub_link/Collateral/1SMB5913BT3-D.PDF
footprint ONSC-SMB-2-403A-03_H_V (Molded, 2-Leads, Body 4.6x3.95mm)
pins: 1 K, 2 A

## MURS240T3
designator D?
Surface Mount Ultrafast Power Rectifier, 2-Pin SMB, Tape and Reel; Manufacturer: On Semiconductor; PartNumber: MURS240T3; IFSM Max (A): 35; DatasheetVersion: Rev. 8; PackageVersion: Rev. H, 05/2011; PackageReference: SMB-2-403A-03_H; PackageDescription: 2-Pin Small Molded Package, J-Bend Lead, Body 4.33 x 3.625 mm; Supplier 1: Digi-Key; Supplier Part Number 1: MURS240T3OS-ND; Packing: Tape and Reel; RoHS: FALSE; Type: Ultrafast; Mounting Technology: Surface Mount; ComponentLink1Description: Manufacturer URL; ComponentLink1URL: http://www.onsemi.com/; ComponentLink2Description: Datasheet; ComponentLink2URL: http://www.onsemi.cn/pub_link/Collateral/MURS230T3-D.PDF; ComponentLink3Description: Package Specification; ComponentLink3URL: http://www.onsemi.com/pub_link/Collateral/1SMB5913BT3-D.PDF
footprint ONSC-SMB-2-403A-03_H_V (Molded, 2-Leads, Body 4.6x3.95mm)
pins: 1 K, 2 A

## MURS240T3G
designator D?
Surface Mount Ultrafast Power Rectifier, 2-Pin SMB, Pb-Free, Tape and Reel; Manufacturer: On Semiconductor; PartNumber: MURS240T3G; IFSM Max (A): 35; DatasheetVersion: Rev. 8; PackageVersion: Rev. H, 05/2011; PackageReference: SMB-2-403A-03_H; PackageDescription: 2-Pin Small Molded Package, J-Bend Lead, Body 4.33 x 3.625 mm; Supplier 1: Digi-Key; Supplier Part Number 1: MURS240T3GOSTR-ND; Supplier 2: Digi-Key; Supplier Part Number 2: MURS240T3GOSCT-ND; Supplier 3: Digi-Key; Supplier Part Number 3: MURS240T3GOSDKR-ND; Supplier 4: Farnell; Supplier Part Number 4: 2317662; Supplier 5: Farnell; Supplier Part Number 5: 1260817; Supplier 6: Newark; Supplier Part Number 6: 45J1739; Supplier 7: Newark; Supplier Part Number 7: 85W2836; Supplier 8: Mouser; Supplier Part Number 8: 863-MURS240T3G; Packing: Tape and Reel; RoHS: TRUE; Type: Ultrafast; Mounting Technology: Surface Mount; ComponentLink1Description: Manufacturer URL; ComponentLink1URL: http://www.onsemi.com/; ComponentLink2Description: Datasheet; ComponentLink2URL: http://www.onsemi.cn/pub_link/Collateral/MURS230T3-D.PDF; ComponentLink3Description: Package Specification; ComponentLink3URL: http://www.onsemi.com/pub_link/Collateral/1SMB5913BT3-D.PDF
footprint ONSC-SMB-2-403A-03_H_V (Molded, 2-Leads, Body 4.6x3.95mm)
pins: 1 K, 2 A

## MURS260T3
designator D?
Surface Mount Ultrafast Power Rectifier, 2-Pin SMB, Tape and Reel; Manufacturer: On Semiconductor; PartNumber: MURS260T3; IFSM Max (A): 35; VRRM Max (V): 600; DatasheetVersion: Rev. 3; PackageVersion: Rev. H, 05/2011; PackageReference: SMB-2-403A-03_H; PackageDescription: 2-Pin Small Molded Package, J-Bend Lead, Body 4.33 x 3.625 mm; Supplier 1: Digi-Key; Supplier Part Number 1: MURS260T3OSTR-ND; Supplier 2: Digi-Key; Supplier Part Number 2: MURS260T3OSCT-ND; Supplier 3: Digi-Key; Supplier Part Number 3: MURS260T3OSDKR-ND; Packing: Tape and Reel; RoHS: FALSE; Type: Ultrafast; Mounting Technology: Surface Mount; ComponentLink1Description: Manufacturer URL; ComponentLink1URL: http://www.onsemi.com/; ComponentLink2Description: Datasheet; ComponentLink2URL: http://www.onsemi.cn/pub_link/Collateral/MURS260T3-D.PDF; ComponentLink3Description: Package Specification; ComponentLink3URL: http://www.onsemi.com/pub_link/Collateral/1SMB5913BT3-D.PDF
footprint ONSC-SMB-2-403A-03_H_V (Molded, 2-Leads, Body 4.6x3.95mm)
pins: 1 K, 2 A

## MURS260T3G
designator D?
Surface Mount Ultrafast Power Rectifier, 2-Pin SMB, Pb-Free, Tape and Reel; Manufacturer: On Semiconductor; PartNumber: MURS260T3G; IFSM Max (A): 35; VRRM Max (V): 600; DatasheetVersion: Rev. 3; PackageVersion: Rev. H, 05/2011; PackageReference: SMB-2-403A-03_H; PackageDescription: 2-Pin Small Molded Package, J-Bend Lead, Body 4.33 x 3.625 mm; Supplier 1: Digi-Key; Supplier Part Number 1: MURS260T3GOSTR-ND; Supplier 2: Digi-Key; Supplier Part Number 2: MURS260T3GOSCT-ND; Supplier 3: Digi-Key; Supplier Part Number 3: MURS260T3GOSDKR-ND; Supplier 4: Farnell; Supplier Part Number 4: 1611357RL; Supplier 5: Farnell; Supplier Part Number 5: 1611357; Supplier 6: Newark; Supplier Part Number 6: 71J6212; Supplier 7: Mouser; Supplier Part Number 7: 863-MURS260T3G; Packing: Tape and Reel; RoHS: TRUE; Type: Ultrafast; Mounting Technology: Surface Mount; ComponentLink1Description: Manufacturer URL; ComponentLink1URL: http://www.onsemi.com/; ComponentLink2Description: Datasheet; ComponentLink2URL: http://www.onsemi.cn/pub_link/Collateral/MURS260T3-D.PDF; ComponentLink3Description: Package Specification; ComponentLink3URL: http://www.onsemi.com/pub_link/Collateral/1SMB5913BT3-D.PDF
footprint ONSC-SMB-2-403A-03_H_V (Molded, 2-Leads, Body 4.6x3.95mm)
pins: 1 K, 2 A

## MURS320T3
designator D?
Surface Mount Ultrafast Power Rectifier, 2-Pin SMC, Tape and Reel; Manufacturer: On Semiconductor; PartNumber: MURS320T3; IFSM Max (A): 100; VRRM Max (V): 200; DatasheetVersion: Rev. 13; PackageVersion: Rev. E, 08/2005; PackageReference: SMC-2-403-03; PackageDescription: 2-Pin Small Molded Package, J-Bend Lead, Body 5.845 x 6.855 mm; Supplier 1: Digi-Key; Supplier Part Number 1: MURS320T3OSCT-ND; Packing: Tape and Reel; RoHS: FALSE; Type: Ultrafast; Mounting Technology: Surface Mount; ComponentLink1Description: Manufacturer URL; ComponentLink1URL: http://www.onsemi.com/; ComponentLink2Description: Datasheet; ComponentLink2URL: http://www.onsemi.cn/pub_link/Collateral/MURS320T3-D.PDF; ComponentLink3Description: Package Specification; ComponentLink3URL: http://www.onsemi.com/pub_link/Collateral/403-03.PDF
footprint ONSC-SMC-2-403-03_V (Molded, 2-Leads, Body 6.86x5.84mm)
pins: 1 K, 2 A

## MURS320T3G
designator D?
Surface Mount Ultrafast Power Rectifier, 2-Pin SMC, Pb-Free, Tape and Reel; Manufacturer: On Semiconductor; PartNumber: MURS320T3G; IFSM Max (A): 100; VRRM Max (V): 200; DatasheetVersion: Rev. 13; PackageVersion: Rev. E, 08/2005; PackageReference: SMC-2-403-03; PackageDescription: 2-Pin Small Molded Package, J-Bend Lead, Body 5.845 x 6.855 mm; Supplier 1: Digi-Key; Supplier Part Number 1: MURS320T3GOSTR-ND; Supplier 2: Digi-Key; Supplier Part Number 2: MURS320T3GOSCT-ND; Supplier 3: Digi-Key; Supplier Part Number 3: MURS320T3GOSDKR-ND; Supplier 4: Farnell; Supplier Part Number 4: 9557555; Supplier 5: Farnell; Supplier Part Number 5: 9557555RL; Supplier 6: Farnell; Supplier Part Number 6: 2317656; Supplier 7: Newark; Supplier Part Number 7: 67H6957; Supplier 8: Newark; Supplier Part Number 8: 67R1389; Supplier 9: Mouser; Supplier Part Number 9: 863-MURS320T3G; Packing: Tape and Reel; RoHS: TRUE; Type: Ultrafast; Mounting Technology: Surface Mount; ComponentLink1Description: Manufacturer URL; ComponentLink1URL: http://www.onsemi.com/; ComponentLink2Description: Datasheet; ComponentLink2URL: http://www.onsemi.cn/pub_link/Collateral/MURS320T3-D.PDF; ComponentLink3Description: Package Specification; ComponentLink3URL: http://www.onsemi.com/pub_link/Collateral/403-03.PDF
footprint ONSC-SMC-2-403-03_V (Molded, 2-Leads, Body 6.86x5.84mm)
pins: 1 K, 2 A

## MURS340T3G
designator D?
Surface Mount Ultrafast Power Rectifier, 2-Pin SMC, Pb-Free, Tape and Reel; Manufacturer: On Semiconductor; PartNumber: MURS340T3G; IFSM Max (A): 100; VRRM Max (V): 400; DatasheetVersion: Rev. 13; PackageVersion: Rev. E, 08/2005; PackageReference: SMC-2-403-03; PackageDescription: 2-Pin Small Molded Package, J-Bend Lead, Body 5.845 x 6.855 mm; Supplier 1: Digi-Key; Supplier Part Number 1: MURS340T3GOSTR-ND; Supplier 2: Digi-Key; Supplier Part Number 2: MURS340T3GOSCT-ND; Supplier 3: Digi-Key; Supplier Part Number 3: MURS340T3GOSDKR-ND; Supplier 4: Farnell; Supplier Part Number 4: 1459152RL; Supplier 5: Farnell; Supplier Part Number 5: 1459152; Supplier 6: Newark; Supplier Part Number 6: 83H7548; Supplier 7: Mouser; Supplier Part Number 7: 863-MURS340T3G; Packing: Tape and Reel; RoHS: TRUE; Type: Ultrafast; Mounting Technology: Surface Mount; ComponentLink1Description: Manufacturer URL; ComponentLink1URL: http://www.onsemi.com/; ComponentLink2Description: Datasheet; ComponentLink2URL: http://www.onsemi.cn/pub_link/Collateral/MURS320T3-D.PDF; ComponentLink3Description: Package Specification; ComponentLink3URL: http://www.onsemi.com/pub_link/Collateral/403-03.PDF
footprint ONSC-SMC-2-403-03_V (Molded, 2-Leads, Body 6.86x5.84mm)
pins: 1 K, 2 A

## MURS360BT3G
designator D?
Surface Mount Ultrafast Power Rectifier, 2-Pin SMB, Pb-Free, Tape and Reel; Manufacturer: On Semiconductor; PartNumber: MURS360BT3G; IFSM Max (A): 100; VRRM Max (V): 600; DatasheetVersion: Rev. 5; PackageVersion: Rev. J, 07/2012; PackageReference: SMB-2-403A-03; PackageDescription: 2-Pin Small Molded Package, J-Bend Lead, Body 4.33 x 3.625 mm; Supplier 1: Digi-Key; Supplier Part Number 1: MURS360BT3GOSTR-ND; Supplier 2: Digi-Key; Supplier Part Number 2: MURS360BT3GOSCT-ND; Supplier 3: Digi-Key; Supplier Part Number 3: MURS360BT3GOSDKR-ND; Supplier 4: Farnell; Supplier Part Number 4: 2370309; Supplier 5: Farnell; Supplier Part Number 5: 1887103; Supplier 6: Newark; Supplier Part Number 6: 57M9772; Supplier 7: Newark; Supplier Part Number 7: 09R9587; Supplier 8: Mouser; Supplier Part Number 8: 863-MURS360BT3G; Packing: Tape and Reel; RoHS: TRUE; Type: Ultrafast; Mounting Technology: Surface Mount; ComponentLink1Description: Manufacturer URL; ComponentLink1URL: http://www.onsemi.com/; ComponentLink2Description: Datasheet; ComponentLink2URL: http://www.onsemi.cn/pub_link/Collateral/MURS360BT3-D.PDF; ComponentLink3Description: Package Specification; ComponentLink3URL: http://www.onsemi.com/pub_link/Collateral/403A-03.PDF
footprint ONSC-SMB-2-403A-03_V (Molded, 2-Leads, Body 4.6x3.95mm)
pins: 1 K, 2 A

## MURS360T3G
designator D?
Surface Mount Ultrafast Power Rectifier, 2-Pin SMC, Pb-Free, Tape and Reel; Manufacturer: On Semiconductor; PartNumber: MURS360T3G; IFSM Max (A): 100; VRRM Max (V): 600; DatasheetVersion: Rev. 13; PackageVersion: Rev. E, 08/2005; PackageReference: SMC-2-403-03; PackageDescription: 2-Pin Small Molded Package, J-Bend Lead, Body 5.845 x 6.855 mm; Supplier 1: Digi-Key; Supplier Part Number 1: MURS360T3GOSTR-ND; Supplier 2: Digi-Key; Supplier Part Number 2: MURS360T3GOSCT-ND; Supplier 3: Digi-Key; Supplier Part Number 3: MURS360T3GOSDKR-ND; Supplier 4: Farnell; Supplier Part Number 4: 1459153RL; Supplier 5: Farnell; Supplier Part Number 5: 1459153; Supplier 6: Newark; Supplier Part Number 6: 88H4945; Supplier 7: Newark; Supplier Part Number 7: 67R1390; Supplier 8: Mouser; Supplier Part Number 8: 863-MURS360T3G; Packing: Tape and Reel; RoHS: TRUE; Type: Ultrafast; Mounting Technology: Surface Mount; ComponentLink1Description: Manufacturer URL; ComponentLink1URL: http://www.onsemi.com/; ComponentLink2Description: Datasheet; ComponentLink2URL: http://www.onsemi.cn/pub_link/Collateral/MURS320T3-D.PDF; ComponentLink3Description: Package Specification; ComponentLink3URL: http://www.onsemi.com/pub_link/Collateral/403-03.PDF
footprint ONSC-SMC-2-403-03_V (Molded, 2-Leads, Body 6.86x5.84mm)
pins: 1 K, 2 A